# Altium schematic symbol library W25QXX.SchLib: 1 symbol
Pins are listed as number, name and electrical type; pins without a type are passive.

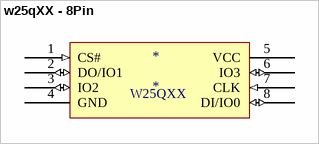
[diagram p0: symbol w25qXX - 8Pin]

## w25qXX - 8Pin
designator *
footprint SOIC8-208mil
pins: 1 CS# (in), 2 DO/IO1 (io), 3 IO2 (io), 4 GND (power), 5 VCC (power), 6 IO3 (io), 7 CLK (in), 8 DI/IO0 (io)
text: W25QXX